# EAGLE library part SM8205 (library custom)
N-Channel MOSFET Dual
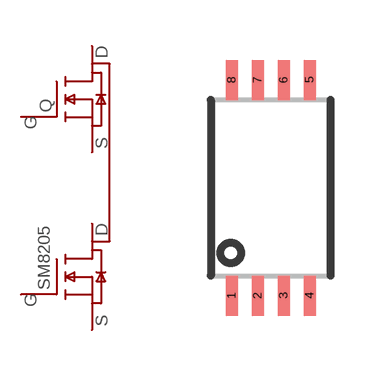
[diagram p71: symbol with the pads of 8-TSSOP; footprint 8-TSSOP]

Designator prefix Q

## SM8205  [8-TSSOP]
1  D1  pas
2  S1  pas
3  S1  pas
4  G1  in
5  G2  in
6  S2  pas
7  S2  pas
8  D2  pas

## Footprint 8-TSSOP (pad centres in mm)
smd 0.3 x 1: 1 -0.975,-2.7; 2 -0.325,-2.7; 3 0.325,-2.7; 4 0.975,-2.7; 5 0.975,2.7; 6 0.325,2.7; 7 -0.325,2.7; 8 -0.975,2.7